# Altium footprint library AltiumLibraries.PcbLib: 91 footprints (part 3 of 6)
Each footprint in its own frame and in the unit in brackets; x right, y up, seen from the top. Pads: shape width x height; smd on the part's side, far side on the other; paste and mask are expansions set on the pad; w line width, h text height; cw(c..) or ccw(c..) is an arc to the next point about the centre after c.
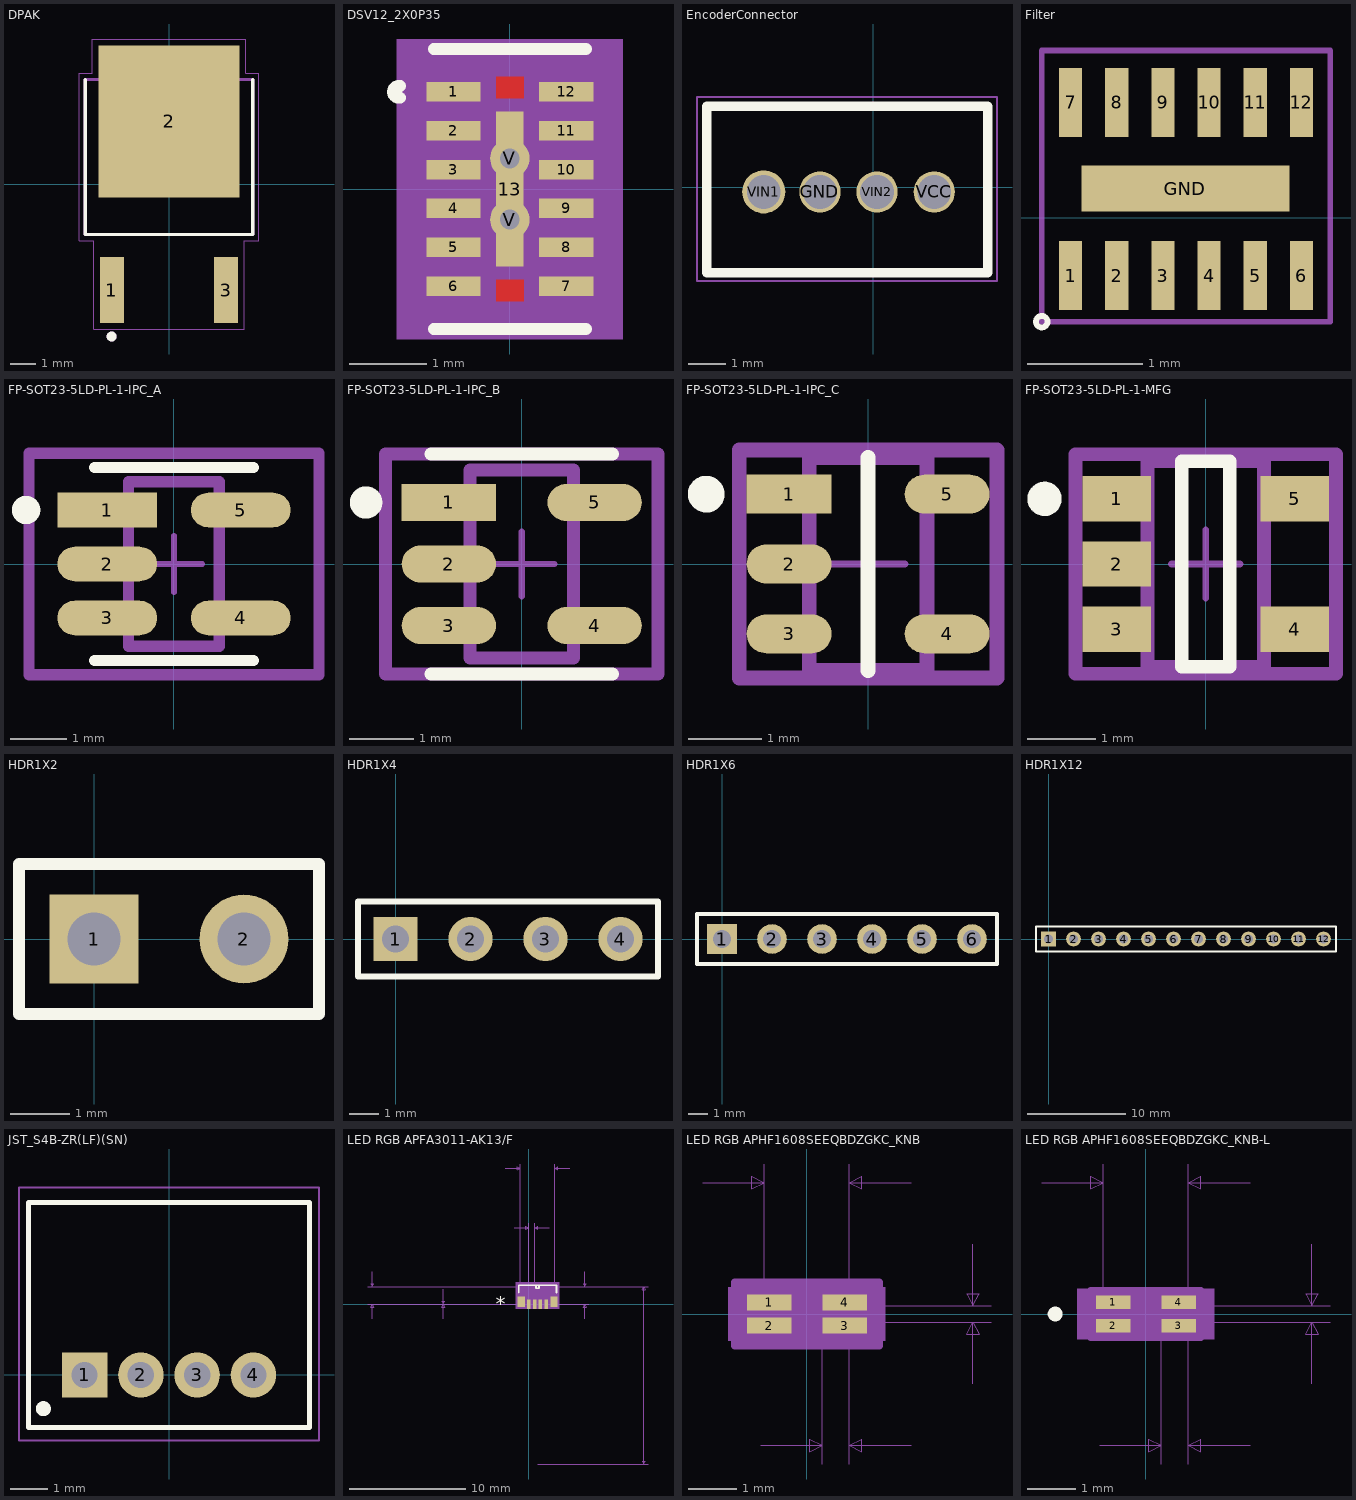
[diagram p2: the footprints below, top view; thin cyan lines are the x and y axes]

## DPAK [mm]
pads (3):
  rect 0.95x2.64 smd: 1(-2.286,-4.24) 3(2.286,-4.24)
  rect 5.63x6.09 smd: 2(0,2.51)
Top Overlay:
  circle w0.2: c-2.3,-6.1 r0.1
  lines w0.127: -3.35,4.185 -3.35,-2.015 3.35,-2.015 3.35,4.185
Bottom Overlay:
  lines w0.127: 3.35,-2.015 3.35,4.185
Top Paste:
  region: 1.225,3.24 2.535,3.24 2.535,1.78 1.225,1.78
  region: 1.225,5.27 2.535,5.27 2.535,3.81 1.225,3.81
  region: 1.225,1.21 2.535,1.21 2.535,-0.25 1.225,-0.25
  region: -2.535,1.21 -1.225,1.21 -1.225,-0.25 -2.535,-0.25
  region: -2.535,3.24 -1.225,3.24 -1.225,1.78 -2.535,1.78
  region: -2.535,5.27 -1.225,5.27 -1.225,3.81 -2.535,3.81
  region: -0.655,1.21 0.655,1.21 0.655,-0.25 -0.655,-0.25
  region: -0.655,5.27 0.655,5.27 0.655,3.81 -0.655,3.81
  region: -0.655,3.24 0.655,3.24 0.655,1.78 -0.655,1.78
Mechanical 4:
  circle w0.2: c-2.3,-6.1 r0.1
  circle w0.2: c-2.3,-6.1 r0.1
  lines w0.127: -3.35,-2.015 -3.35,4.185 ; -3.35,-2.015 3.35,-2.015 ; -3.35,-2.015 -3.35,4.185 ; -3.35,-2.015 3.35,-2.015 ; -3.35,4.185 3.35,4.185 ; -3.35,4.185 3.35,4.185 ; 3.35,-2.015 3.35,4.185 ; 3.35,-2.015 3.35,4.185
Mechanical 15:
  lines w0.05: -3.6,-2.27 -3.02,-2.27 -3.02,-5.81 3.02,-5.81 3.02,-2.27 3.6,-2.27 3.6,4.44 3.065,4.44 3.065,5.81 -3.065,5.81 -3.065,4.44 -3.6,4.44 -3.6,-2.27

## DSV12_2X0P35 [mm]
pads (15):
  rect 0.7x0.25 smd paste-0.125: 1(-0.725,1.25) 2(-0.725,0.75) 3(-0.725,0.25) 4(-0.725,-0.25) 5(-0.725,-0.75) 6(-0.725,-1.25) 7(0.725,-1.25) 8(0.725,-0.75) 9(0.725,-0.25) 10(0.725,0.25) 11(0.725,0.75) 12(0.725,1.25)
  rect 0.35x2 smd paste-0.987 mask-0.991: 13(0,0)
  round 0.508 hole 0.254: V(0,-0.394) V(0,0.394)
Top Layer:
  region: 0.178,-1.448 0.178,-1.168 -0.178,-1.168 -0.178,-1.448
  region: 0.178,1.168 -0.178,1.168 -0.178,1.448 0.178,1.448
  region: 0,-1
  region: 0,1
Top Overlay:
  lines w0.152: -1.41,1.176 cw(c-1.427,1.25) -1.41,1.324 ; -0.979,-1.804 0.979,-1.804 ; -0.979,1.804 0.979,1.804
Top Paste:
  region: 0.127,1.397 -0.127,1.397 -0.127,1.219 0.127,1.219
  region: 0.127,-1.219 -0.127,-1.219 -0.127,-1.397 0.127,-1.397
  region: 0.152,-0.991 0.152,-0.102 -0.152,-0.102 -0.152,-0.991
  region: 0.152,0.991 -0.152,0.991 -0.152,0.102 0.152,0.102
  region: 0.1,-0.494 0.241,-0.494 0.1,-0.635 0.1,-0.925
  region: 0.1,0.294 0.241,0.294 0.1,0.152 0.1,-0.152 0.241,-0.294 0.1,-0.294
  region: 0.1,0.925 0.1,0.635 0.241,0.494 0.1,0.494
  region: -0.241,-0.494 -0.1,-0.494 -0.1,-0.925 -0.1,-0.635
  region: -0.241,0.294 -0.1,0.294 -0.1,-0.294 -0.241,-0.294 -0.1,-0.152 -0.1,0.152
  region: -0.1,0.925 -0.1,0.494 -0.241,0.494 -0.1,0.635
  region: 1.05,1.35 0.4,1.35 0.4,1.15 1.05,1.15
  region: 1.05,0.85 0.4,0.85 0.4,0.65 1.05,0.65
  region: 1.05,0.35 0.4,0.35 0.4,0.15 1.05,0.15
  region: 1.05,-0.15 0.4,-0.15 0.4,-0.35 1.05,-0.35
  region: 1.05,-0.65 0.4,-0.65 0.4,-0.85 1.05,-0.85
  region: 1.05,-1.15 0.4,-1.15 0.4,-1.35 1.05,-1.35
  region: -0.4,-1.15 -1.05,-1.15 -1.05,-1.35 -0.4,-1.35
  region: -0.4,-0.65 -1.05,-0.65 -1.05,-0.85 -0.4,-0.85
  region: -0.4,-0.15 -1.05,-0.15 -1.05,-0.35 -0.4,-0.35
  region: -0.4,0.35 -1.05,0.35 -1.05,0.15 -0.4,0.15
  region: -0.4,0.85 -1.05,0.85 -1.05,0.65 -0.4,0.65
  region: -0.4,1.35 -1.05,1.35 -1.05,1.15 -0.4,1.15
Top Solder:
  region: -0.235,-1.53 -0.235,-1.06 0.242,-1.06 0.242,-1.53
  region: -0.241,1.022 -0.241,1.511 0.235,1.511 0.236,1.022
  region: -0.239,-1.064 -0.239,-0.594 0.239,-0.594 0.239,-1.064
  region: 0.102,-1.102 -0.102,-1.102 0.102,-1.102
  region: 0.102,1.102 -0.102,1.102 0.102,1.102
  region: 0.2,-1.064 0.2,1.064 0.239,1.064 0.239,-1.064
  region: -0.239,-1.064 -0.239,1.064 -0.2,1.064 -0.2,-1.064
  region: -0.239,-1.064 -0.239,-0.594 0.239,-0.594 0.239,-1.064
  region: -0.239,-0.194 -0.239,0.194 0.239,0.194 0.239,-0.194
  region: -0.239,0.594 -0.239,1.064 0.239,1.064 0.239,0.594
  region: 1.145,1.445 0.305,1.445 0.305,1.055 1.145,1.055
  region: 1.145,0.945 0.305,0.945 0.305,0.555 1.145,0.555
  region: 1.145,0.445 0.305,0.445 0.305,0.055 1.145,0.055
  region: 1.145,-0.055 0.305,-0.055 0.305,-0.445 1.145,-0.445
  region: 1.145,-0.555 0.305,-0.555 0.305,-0.945 1.145,-0.945
  region: 1.145,-1.055 0.305,-1.055 0.305,-1.445 1.145,-1.445
  region: -0.305,-1.055 -1.145,-1.055 -1.145,-1.445 -0.305,-1.445
  region: -0.305,-0.555 -1.145,-0.555 -1.145,-0.945 -0.305,-0.945
  region: -0.305,-0.055 -1.145,-0.055 -1.145,-0.445 -0.305,-0.445
  region: -0.305,0.445 -1.145,0.445 -1.145,0.055 -0.305,0.055
  region: -0.305,0.945 -1.145,0.945 -1.145,0.555 -0.305,0.555
  region: -0.305,1.445 -1.145,1.445 -1.145,1.055 -0.305,1.055
Mechanical 5:
  region: 1.456,-1.931 -1.456,-1.931 -1.456,1.931 1.456,1.931
Mechanical 13:
  circle w0: c-1.427,1.25 r0.076
  lines w0: -0.305,1.55 ccw(c0,1.55) 0.305,1.55
  lines w0.025: -0.725,-1.55 -0.725,1.55 0.725,1.55 0.725,-1.55 -0.725,-1.55
Mechanical 15:
  region: 1.329,-1.804 -1.329,-1.804 -1.329,1.804 1.329,1.804
  lines w0.152: -1.329,-1.804 1.329,-1.804 1.329,1.804 -1.329,1.804 -1.329,-1.804
3D body: height 0.25, standoff 0, extent 0,0 0.254,0.254

## EncoderConnector [mm] "CONN HEADER R/A 4POS 1.5MM"
pads (4):
  round 1.1 hole 0.9: GND(-1.421,-0.127) VCC(1.627,-0.127) VIN2(0.103,-0.127)
  round 1.15 hole 0.9: VIN1(-2.921,-0.127)
Top Overlay:
  lines w0.254: 3.048,-2.286 3.048,2.159 ; 3.055,-2.286 -4.445,-2.286 -4.445,2.159 3.055,2.159
Mechanical 15:
  lines w0.05: -4.7,-2.5 3.3,-2.5 3.3,2.4 -4.7,2.4 -4.7,-2.5

## Filter [mm]
pads (13):
  rect 0.2x0.6 smd mask+0.05: 1(-2.9,-0.5) 2(-2.5,-0.5) 3(-2.1,-0.5) 4(-1.7,-0.5) 5(-1.3,-0.5) 6(-0.9,-0.5) 7(-2.9,1) 8(-2.5,1) 9(-2.1,1) 10(-1.7,1) 11(-1.3,1) 12(-0.9,1)
  rect 1.8x0.4 smd: GND(-1.905,0.254)
Top Overlay:
  circle w0.05: c-3.15,-0.9 r0.05
Mechanical 1:
  lines w0.05: -3.15,0.25 -3.15,1.45 -0.65,1.45 -0.65,0.25 ; -3.15,0.3 -3.15,-0.9 -0.65,-0.9 -0.65,0.3

## FP-SOT23-5LD-PL-1-IPC_A [mm]
pads (5):
  rect 1.756x0.61 smd paste+0 mask+0: 1(-1.175,0.95)
  rrect100% 1.756x0.61 smd paste+0 mask+0: 2(-1.175,0) 3(-1.175,-0.95) 4(1.175,-0.95) 5(1.175,0.95)
Top Overlay:
  circle w0.25: c-2.603,0.95 r0.125
  lines w0.2: -1.4,-1.7 1.4,-1.7 ; -1.4,1.7 1.4,1.7
Mechanical 5:
  lines w0.2: -2.553,-1.95 -2.553,1.95 2.553,1.95 2.553,-1.95 -2.553,-1.95
  text ".Designator" at -2.565,2.296 h1
Mechanical 13:
  lines w0.2: -0.8,-1.45 -0.8,1.45 0.8,1.45 0.8,-1.45 -0.8,-1.45
Mechanical 15:
  lines w0.2: -2.553,-1.95 -2.553,1.95 2.553,1.95 2.553,-1.95 -2.553,-1.95
Mechanical 16:
  lines w0.1: -0.5,0 0.5,0 ; 0,-0.5 0,0.5
3D body "IC_Microchip_MIC7300YM5-TR_eec.STEP": height 0.25, standoff 0, extent -2.553,-1.95 2.553,1.95

## FP-SOT23-5LD-PL-1-IPC_B [mm]
pads (5):
  rect 1.456x0.57 smd paste+0 mask+0: 1(-1.125,0.95)
  rrect100% 1.456x0.57 smd paste+0 mask+0: 2(-1.125,0) 3(-1.125,-0.95) 4(1.125,-0.95) 5(1.125,0.95)
Top Overlay:
  circle w0.25: c-2.403,0.95 r0.125
  lines w0.2: -1.4,-1.7 1.4,-1.7 ; -1.4,1.7 1.4,1.7
Mechanical 5:
  lines w0.2: -2.103,-1.7 2.103,-1.7 2.103,1.7 -2.103,1.7 -2.103,-1.7
  text ".Designator" at -2.184,2.017 h1
Mechanical 13:
  lines w0.2: -0.8,-1.45 0.8,-1.45 0.8,1.45 -0.8,1.45 -0.8,-1.45
Mechanical 15:
  lines w0.2: -2.103,-1.7 2.103,-1.7 2.103,1.7 -2.103,1.7 -2.103,-1.7
Mechanical 16:
  lines w0.1: -0.5,0 0.5,0 ; 0,-0.5 0,0.5
3D body "IC_Microchip_MIC7300YM5-TR_eec.STEP": height 0.25, standoff 0, extent -2.103,-1.7 2.103,1.7

## FP-SOT23-5LD-PL-1-IPC_C [mm]
pads (5):
  rect 1.156x0.53 smd paste+0 mask+0: 1(-1.075,0.95)
  rrect100% 1.156x0.53 smd paste+0 mask+0: 2(-1.075,0) 3(-1.075,-0.95) 4(1.075,-0.95) 5(1.075,0.95)
Top Overlay:
  circle w0.25: c-2.203,0.95 r0.125
  lines w0.2: -0.003,-1.45 0.003,-1.45 0.003,1.45 -0.003,1.45 -0.003,-1.45
Mechanical 5:
  lines w0.2: -1.753,-1.55 -1.753,1.55 1.753,1.55 1.753,-1.55 -1.753,-1.55
  text ".Designator" at -1.854,1.89 h1
Mechanical 13:
  lines w0.2: -0.8,-1.45 -0.8,1.45 0.8,1.45 0.8,-1.45 -0.8,-1.45
Mechanical 15:
  lines w0.2: -1.753,-1.55 -1.753,1.55 1.753,1.55 1.753,-1.55 -1.753,-1.55
Mechanical 16:
  lines w0.1: -0.5,0 0.5,0 ; 0,-0.5 0,0.5
3D body "IC_Microchip_MIC7300YM5-TR_eec.STEP": height 0.25, standoff 0, extent -1.753,-1.55 1.753,1.55

## FP-SOT23-5LD-PL-1-MFG [mm]
pads (5):
  rect 1x0.66 smd paste+0 mask+0: 1(-1.3,0.95) 2(-1.3,0) 3(-1.3,-0.95) 4(1.3,-0.95) 5(1.3,0.95)
Top Overlay:
  circle w0.25: c-2.35,0.95 r0.125
  lines w0.2: -0.35,-1.5 -0.35,1.5 0.35,1.5 0.35,-1.5 -0.35,-1.5
Mechanical 5:
  lines w0.2: -1.9,-1.6 -1.9,1.6 1.9,1.6 1.9,-1.6 -1.9,-1.6
  text ".Designator" at -2.007,1.941 h1
Mechanical 13:
  lines w0.2: -0.85,-1.5 -0.85,1.5 0.85,1.5 0.85,-1.5 -0.85,-1.5
Mechanical 15:
  lines w0.2: -1.9,-1.6 -1.9,1.6 1.9,1.6 1.9,-1.6 -1.9,-1.6
Mechanical 16:
  lines w0.1: -0.5,0 0.5,0 ; 0,-0.5 0,0.5
3D body "IC_Microchip_MIC7300YM5-TR_eec.STEP": height 0.25, standoff 0, extent -1.9,-1.6 1.9,1.6

## HDR1X2 [mm]
pads (2):
  rect 1.5x1.5 hole 0.9: 1(0,0)
  round 1.5 hole 0.9: 2(2.54,0)
Top Overlay:
  lines w0.2: -1.27,-1.27 3.81,-1.27 3.81,1.27 -1.27,1.27 -1.27,-1.27

## HDR1X4 [mm]
pads (4):
  rect 1.5x1.5 hole 0.9: 1(0,0)
  round 1.5 hole 0.9: 2(2.54,0) 3(5.08,0) 4(7.62,0)
Top Overlay:
  lines w0.2: -1.27,-1.27 8.89,-1.27 8.89,1.27 -1.27,1.27 -1.27,-1.27

## HDR1X6 [mm]
pads (6):
  rect 1.5x1.5 hole 0.9: 1(0,0)
  round 1.5 hole 0.9: 2(2.54,0) 3(5.08,0) 4(7.62,0) 5(10.16,0) 6(12.7,0)
Top Overlay:
  lines w0.2: -1.27,-1.27 13.97,-1.27 13.97,1.27 -1.27,1.27 -1.27,-1.27

## HDR1X12 [mm]
pads (12):
  rect 1.5x1.5 hole 0.9: 1(0,0)
  round 1.5 hole 0.9: 2(2.54,0) 3(5.08,0) 4(7.62,0) 5(10.16,0) 6(12.7,0) 7(15.24,0) 8(17.78,0) 9(20.32,0) 10(22.86,0) 11(25.4,0) 12(27.94,0)
Top Overlay:
  lines w0.2: -1.27,-1.27 -1.27,1.27 0.635,1.27 29.21,1.27 29.21,-1.27 -1.27,-1.27

## JST_S4B-ZR(LF)(SN) [mm]
pads (4):
  rect 1.208x1.208 hole 0.7: 1(-2.25,0)
  round 1.208 hole 0.7: 2(-0.75,0) 3(0.75,0) 4(2.25,0)
Top Overlay:
  circle w0.2: c-3.35,-0.9 r0.1
  lines w0.127: -3.75,-1.4 -3.75,4.6 3.75,4.6 3.75,-1.4 -3.75,-1.4
Mechanical 16:
  lines w0.05: -4,-1.75 -4,5 4,5 4,-1.75 -4,-1.75
3D body "S4B-ZR.STEP": height 3.7, standoff -2.7, extent -3.75,-1.428 3.75,4.572

## LED RGB APFA3011-AK13/F [mil]
pads (6):
  rect 12x32 smd paste+0 mask+0: 1(0,0) 2(19.69,0) 3(39.37,0) 4(59.06,0)
  rect 24x35 smd paste+0 mask+0: 5(-25.59,7.87) 6(84.65,7.87)
Top Overlay:
  lines w6: -34.47,38.47 -34.47,64 93.53,64 93.53,38.47 ; 24.53,54 34.53,54 34.53,64 24.53,64 24.53,54
  text "*" at -112.5,-25 h50
Mechanical 5:
  region: -44.47,74 103.53,74 103.53,-15 -44.47,-15
Mechanical 7:
  lines w1: -544.47,0 -29.47,0 -29.47,474 ; -544.47,59 -29.47,59 ; -529.47,-50 -529.47,0 ; -529.47,109 -529.47,59 ; -290.16,-50 -290.16,0 ; -290.16,50 -290.16,0 ; -79.47,459 -29.47,459 ; -50,259 0,259 ; 0,274 0,0 -305.16,0 19.68,0 19.68,274 ; 29.53,-541 403.53,-541 ; 29.53,0 203.53,0 ; 69.69,259 19.68,259 ; 88.53,0 88.53,474 ; 138.53,459 88.53,459 ; 188.53,-50 188.53,0 ; 188.53,109 188.53,59 ; 203.53,59 29.53,59 403.53,59 ; -529.47,0 -534.47,-10 -524.47,-10 -529.47,0 ; -529.47,59 -534.47,69 -524.47,69 -529.47,59 ; -290.16,0 -295.16,10 -285.16,10 -290.16,0 ; -290.16,0 -295.16,-10 -285.16,-10 -290.16,0 ; -29.47,459 -39.47,464 -39.47,454 -29.47,459 ; 0,259 -10,264 -10,254 0,259 ; 19.68,259 29.68,264 29.68,254 19.68,259 ; 88.53,459 98.53,464 98.53,454 88.53,459 ; 188.53,0 183.53,-10 193.53,-10 188.53,0 ; 188.53,59 183.53,69 193.53,69 188.53,59 ; 388.53,-541 388.53,59 ; 388.53,-541 383.53,-531 393.53,-531 388.53,-541 ; 388.53,59 383.53,49 393.53,49 388.53,59
  text "Top Row Padstyle:RX12Y32D0T" at -307.97,-160 h50
  text "Middle Row Padstyle: RX24Y35D0T" at -357.97,-235 h50
  text "2nd Middle Row Padstyle: EX55Y55D32P" at -420.47,-310 h50
  text "Bottom Row Padstyle: EX55Y55D32P" at -370.47,-385 h50
  text "Second Bottom Row Padstyle: EX55Y55D32P" at -457.97,-460 h50
  text "Mounting Padstyle: EX96Y96D96P" at -345.47,-535 h50
  text "Second Mounting Padstyle: EX96Y96D96P" at -432.97,-610 h50
  text "Alt 1 Padstyle: OX60Y90D30P" at -307.97,-685 h50
  text "Alt 2 Padstyle: OX90Y60D30P" at -307.97,-760 h50
  text "0.02in/0.5mm" at -65.16,279 h25
  text "0in/0mm" at -333.91,20 h25
  text "0.118in/2.997mm" at -64.22,479 h25
  text "0.059in/1.499mm" at -736.97,17 h25
  text "-0.059in/-1.499mm" at 208.53,17 h25
  text "-0.6in/-15.24mm" at 408.53,-253.5 h25
Mechanical 13:
  lines w1: -29.47,0 88.53,0 88.53,59 -29.47,59 -29.47,0
  text "*" at -112.5,-25 h50
Mechanical 15:
  region: 98.53,-10 98.53,69 -39.47,69 -39.47,-10
  lines w6: -39.47,-10 -39.47,69 98.53,69 98.53,-10 -39.47,-10
3D body: height 10, standoff 0, extent 0,0 10,10

## LED RGB APHF1608SEEQBDZGKC_KNB [mil]
pads (4):
  rect 36x13 smd paste+0 mask+0: 1(-30.5,9.35) 2(-30.5,-9.35) 3(30.5,-9.35) 4(30.5,9.35)
Mechanical 5:
  region: 63.5,-21.5 -63.5,-21.5 -63.5,21.5 63.5,21.5
Mechanical 7:
  lines w1: -84.5,106.5 -34.5,106.5 ; -37.5,-106.5 12.5,-106.5 ; -34.5,0 -34.5,121.5 ; 0,-6.5 149.5,-6.5 ; 0,6.5 149.5,6.5 ; 12.5,-121.5 12.5,0 ; 34.5,-121.5 34.5,0 34.5,121.5 ; 84.5,-106.5 34.5,-106.5 ; 84.5,106.5 34.5,106.5 ; 134.5,-56.5 134.5,-6.5 ; 134.5,56.5 134.5,6.5 ; -34.5,106.5 -44.5,111.5 -44.5,101.5 -34.5,106.5 ; 12.5,-106.5 2.5,-101.5 2.5,-111.5 12.5,-106.5 ; 34.5,-106.5 44.5,-101.5 44.5,-111.5 34.5,-106.5 ; 34.5,106.5 44.5,111.5 44.5,101.5 34.5,106.5 ; 134.5,-6.5 129.5,-16.5 139.5,-16.5 134.5,-6.5 ; 134.5,6.5 129.5,16.5 139.5,16.5 134.5,6.5
  text "Default Padstyle: RX36Y13D0T" at -350,-276.5 h50
  text "Alternate 1 Padstyle: OX60Y90D30P" at -412.5,-376.5 h50
  text "Alternate 2 Padstyle: OX90Y60D30P" at -412.5,-476.5 h50
  text "0.013in/0.33mm" at 154.5,-12.5 h25
  text "0.069in/1.753mm" at -93.75,126.5 h25
  text "0.022in/0.559mm" at -70.25,-151.5 h25
Mechanical 13:
  lines w1: -34.5,-18.5 34.5,-18.5 34.5,18.5 -34.5,18.5 -34.5,-18.5 ; -34.5,-6.5 -34.5,6.5 -12.5,6.5 -12.5,-6.5 -34.5,-6.5 ; 12.5,-6.5 12.5,6.5 34.5,6.5 34.5,-6.5 12.5,-6.5
Mechanical 15:
  region: 58.5,-25.85 -58.5,-25.85 -58.5,25.85 58.5,25.85
  lines w6: -58.5,-25.85 -58.5,25.85 58.5,25.85 58.5,-25.85 -58.5,-25.85
3D body: height 10, standoff 0, extent 0,0 10,10

## LED RGB APHF1608SEEQBDZGKC_KNB-L [mil]
pads (4):
  rect 28x11 smd paste+0 mask+0: 1(-26.5,9.35) 2(-26.5,-9.35) 3(26.5,-9.35) 4(26.5,9.35)
Top Overlay:
  circle w6: c-73.5,0 r3
Mechanical 5:
  region: 55.5,-20.5 -55.5,-20.5 -55.5,20.5 55.5,20.5
Mechanical 7:
  lines w1: -84.5,106.5 -34.5,106.5 ; -37.5,-106.5 12.5,-106.5 ; -34.5,0 -34.5,121.5 ; 0,-6.5 149.5,-6.5 ; 0,6.5 149.5,6.5 ; 12.5,-121.5 12.5,0 ; 34.5,-121.5 34.5,0 34.5,121.5 ; 84.5,-106.5 34.5,-106.5 ; 84.5,106.5 34.5,106.5 ; 134.5,-56.5 134.5,-6.5 ; 134.5,56.5 134.5,6.5 ; -34.5,106.5 -44.5,101.5 -44.5,111.5 -34.5,106.5 ; 12.5,-106.5 2.5,-111.5 2.5,-101.5 12.5,-106.5 ; 34.5,-106.5 44.5,-111.5 44.5,-101.5 34.5,-106.5 ; 34.5,106.5 44.5,101.5 44.5,111.5 34.5,106.5 ; 134.5,-6.5 139.5,-16.5 129.5,-16.5 134.5,-6.5 ; 134.5,6.5 139.5,16.5 129.5,16.5 134.5,6.5
  text "0.022in/0.559mm" at -70.25,-151.5 h25
  text "0.069in/1.753mm" at -93.75,126.5 h25
  text "0.013in/0.33mm" at 154.5,-12.5 h25
  text "Alternate 2 Padstyle: OX90Y60D30P" at -412.5,-475.5 h50
  text "Alternate 1 Padstyle: OX60Y90D30P" at -412.5,-375.5 h50
  text "Default Padstyle: RX28Y11D0T" at -350,-275.5 h50
Mechanical 13:
  circle w0: c-21.5,9.35 r3
  lines w1: -34.5,-18.5 -34.5,18.5 34.5,18.5 34.5,-18.5 -34.5,-18.5 ; -34.5,-6.5 -12.5,-6.5 -12.5,6.5 -34.5,6.5 -34.5,-6.5 ; 12.5,-6.5 34.5,-6.5 34.5,6.5 12.5,6.5 12.5,-6.5
Mechanical 15:
  region: 44.5,-18.85 -44.5,-18.85 -44.5,18.85 44.5,18.85
  lines w6: -44.5,-18.85 44.5,-18.85 44.5,18.85 -44.5,18.85 -44.5,-18.85
3D body: height 10, standoff 0, extent 0,0 10,10